# Altium schematic symbol library Transformers.SchLib: 4 symbols
Pins are listed as number, name and electrical type; pins without a type are passive.

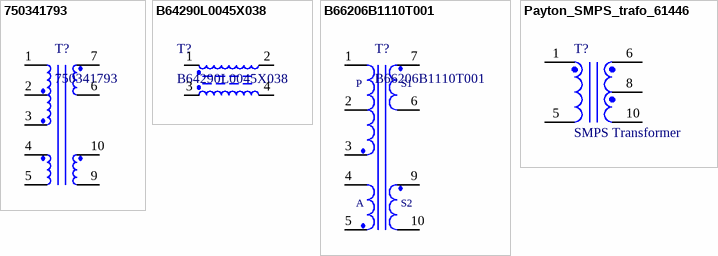
[diagram p0: symbols 750341793 to Payton_SMPS_trafo_61446]

## 750341793
designator T?
Power Transformers MID-OLON Flyback Transformer - Wuerth Elektronik; Primary Voltage Rating: 85 VAC to 600 VAC; Secondary Voltage Rating: 5V, 12V; Power Rating: 9.8W; Secondary Current Rating: 1A, 400mA; Inductance: 2.25mH; Turns Ratio: 14.9:1:2.30:2.4; Operating frequency: 50 kHz; Manufacturer: Wuerth Elektronik; Type: Flyback; Termination Style: Thru-Hole; Length: 23 mm; Width: 22 mm; Height: 17.53 mm; Supplier 1: Mouser; Supplier 2: Digi-Key; Supplier Part Number 2: 1297-1283-ND; Supplier Part Number 1: 710-750341793
footprint 750341793 (Power Transformers EE20/10/6 (EF20) horizontal core)
pins: 1, 2, 3, 4, 5, 6, 7, 9, 10

## B64290L0045X038
designator T?
FERRITE CORE TOROID 6.44UH T38; Manufacturer: TDK; Shape: Cylindrical; Manufacturer Part Number: B64290L0045X038; RoHS: Yes; Category: Uncategorized; Stock 1: 6794; Pricing 1: 1=0,79000, 10=0,71000, 25=0,52600, 50=0,49980, 100=0,44710, 250=0,42080, 500=0,39450, 1000=0,34190, 5000=0,32875 (USD); Package Quantity: 2000; Packaging: Bulk; Diameter: 17.2mm; ComponentLink1URL: http://components.arrow.com/part/dataview/0323_01888516?src-supplier=Arrow+Europe; ComponentLink1Description: http://components.arrow.com/part/dataview/0323_01888516?src-supplier=Arrow+Europe; ComponentLink2URL: https://www.verical.com/server-webapp/html/getDatasheet?partID=477647&src-supplier=Verical; ComponentLink2Description: https://www.verical.com/server-webapp/html/getDatasheet?partID=477647&src-supplier=Verical; ComponentLink3URL: http://www.epcos.com/inf/80/db/fer_07/r_16.pdf?src-supplier=Avnet; ComponentLink3Description: http://www.epcos.com/inf/80/db/fer_07/r_16.pdf?src-supplier=Avnet; ComponentLink4URL: https://en.tdk.eu/download/531586/2d679ff7e70f74dfb98dc2a4732cca7b/pdf-toroids-general-information.pdf?src-supplier=Digi-Key; ComponentLink4Description: https://en.tdk.eu/download/531586/2d679ff7e70f74dfb98dc2a4732cca7b/pdf-toroids-general-information.pdf?src-supplier=Digi-Key; Supplier 1: Digi-Key; Supplier 2: Arrow; Supplier 3: Farnell; Supplier 4: Newark; Supplier Part Number 4: 02AC3431; Supplier Part Number 3: 2673401; Supplier Part Number 2: B64290L0045X038; Supplier Part Number 1: 495-3854-ND
footprint B64290L0045X038 (Ferrite toroid 16x9.6x6.3)
pins: 1, 2, 3, 4

## B66206B1110T001
designator T?
Flyback transformer 1 primary, 1 auxiliary, 2 secondary, E 20/10/6 (EF 20) Horizontal; Supplier 1: Digi-Key; Supplier 2: Arrow; Supplier 3: Mouser; Supplier 4: Farnell; Supplier 5: Newark; Supplier Part Number 1: 495-5365-ND; Supplier Part Number 2: B66206B1110T001; Supplier Part Number 4: 1422759; Supplier Part Number 5: 53M6943; Supplier Part Number 3: 871-B66206B1110T001
footprint B66206B1110T001 (Coil Former E 20/10/6 (EF 20) Horizontal - TDK EPCOS)
pins: 1, 2 3, 3, 4, 5, 6, 7, 9, 10
text: P; S1; A; S2

## Payton_SMPS_trafo_61446
designator T?, comment SMPS Transformer
1400W SMPS Transformer Payton 61446; Generic Type: T250AC-24-18C; Total Output Power (after rectifier): 1400W (140 Vdc/ 10 Adc); Transformer Operating Frequency: 150 kHz; Topology: Half Bridge; Input Voltage: 750-1000 Vdc; Transformer Input Voltage: 374-499 Vdc; Operating duty cicle, max.: 1 (0,5*2); Operating Volt-second product, max.: 2500 (1250*2) V-usec.; Primary Current, max.: 4,07 Arms (4,2 Apeak); Pri. to half Sec. ratio (Sec current, max. - 7,07 Arms): 24:9; Dielectric Strength (Pri. to Sec.): 2000 Vrms; Dielectric Strength (Pri.+Sec. to Core): 500 Vdc; Estimated Power Losses: 15W; Estimated Hot Spot Temperature (With heatsink of 85°C max attached): 110 °C; Ambient Temperature Range: - 40 °C to 85°C; Mechanical Dimension - Length (For reference only): 67 mm.; Mechanical Dimension - Width (For reference only): 65 mm.; Mechanical Dimension - Height (For reference only): 32 mm.
footprint Payton_SMPS_trafo_61446
pins: 1 0, 5 1, 6 1, 8 6, 10 0